# Altium schematic symbol library W25Q32JVSSIQ.SchLib: 1 symbol
Pins are listed as number, name and electrical type; pins without a type are passive.

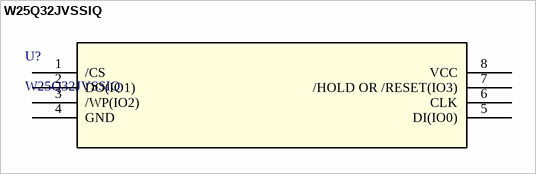
[diagram p0: symbol W25Q32JVSSIQ]

## W25Q32JVSSIQ
designator U?
Description; Manufacturer_Name: Winbond; Copyright: Copyright (C) 2025 Ultra Librarian. All rights reserved.; Manufacturer_Part_Number: W25Q32JVSSIQ; RefDes: RefDes; Type: Type
footprint SOIC-8_5P28X5P28_WIN
pins: 1 /CS, 2 DO(IO1), 3 /WP(IO2), 4 GND (power), 5 DI(IO0), 6 CLK, 7 /HOLD OR /RESET(IO3), 8 VCC (power)